# Altium footprint library MISCELANEOUS.PcbLib: 16 footprints
Each footprint in its own frame and in the unit in brackets; x right, y up, seen from the top. Pads: shape width x height; smd on the part's side, far side on the other; paste and mask are expansions set on the pad; w line width, h text height; cw(c..) or ccw(c..) is an arc to the next point about the centre after c.
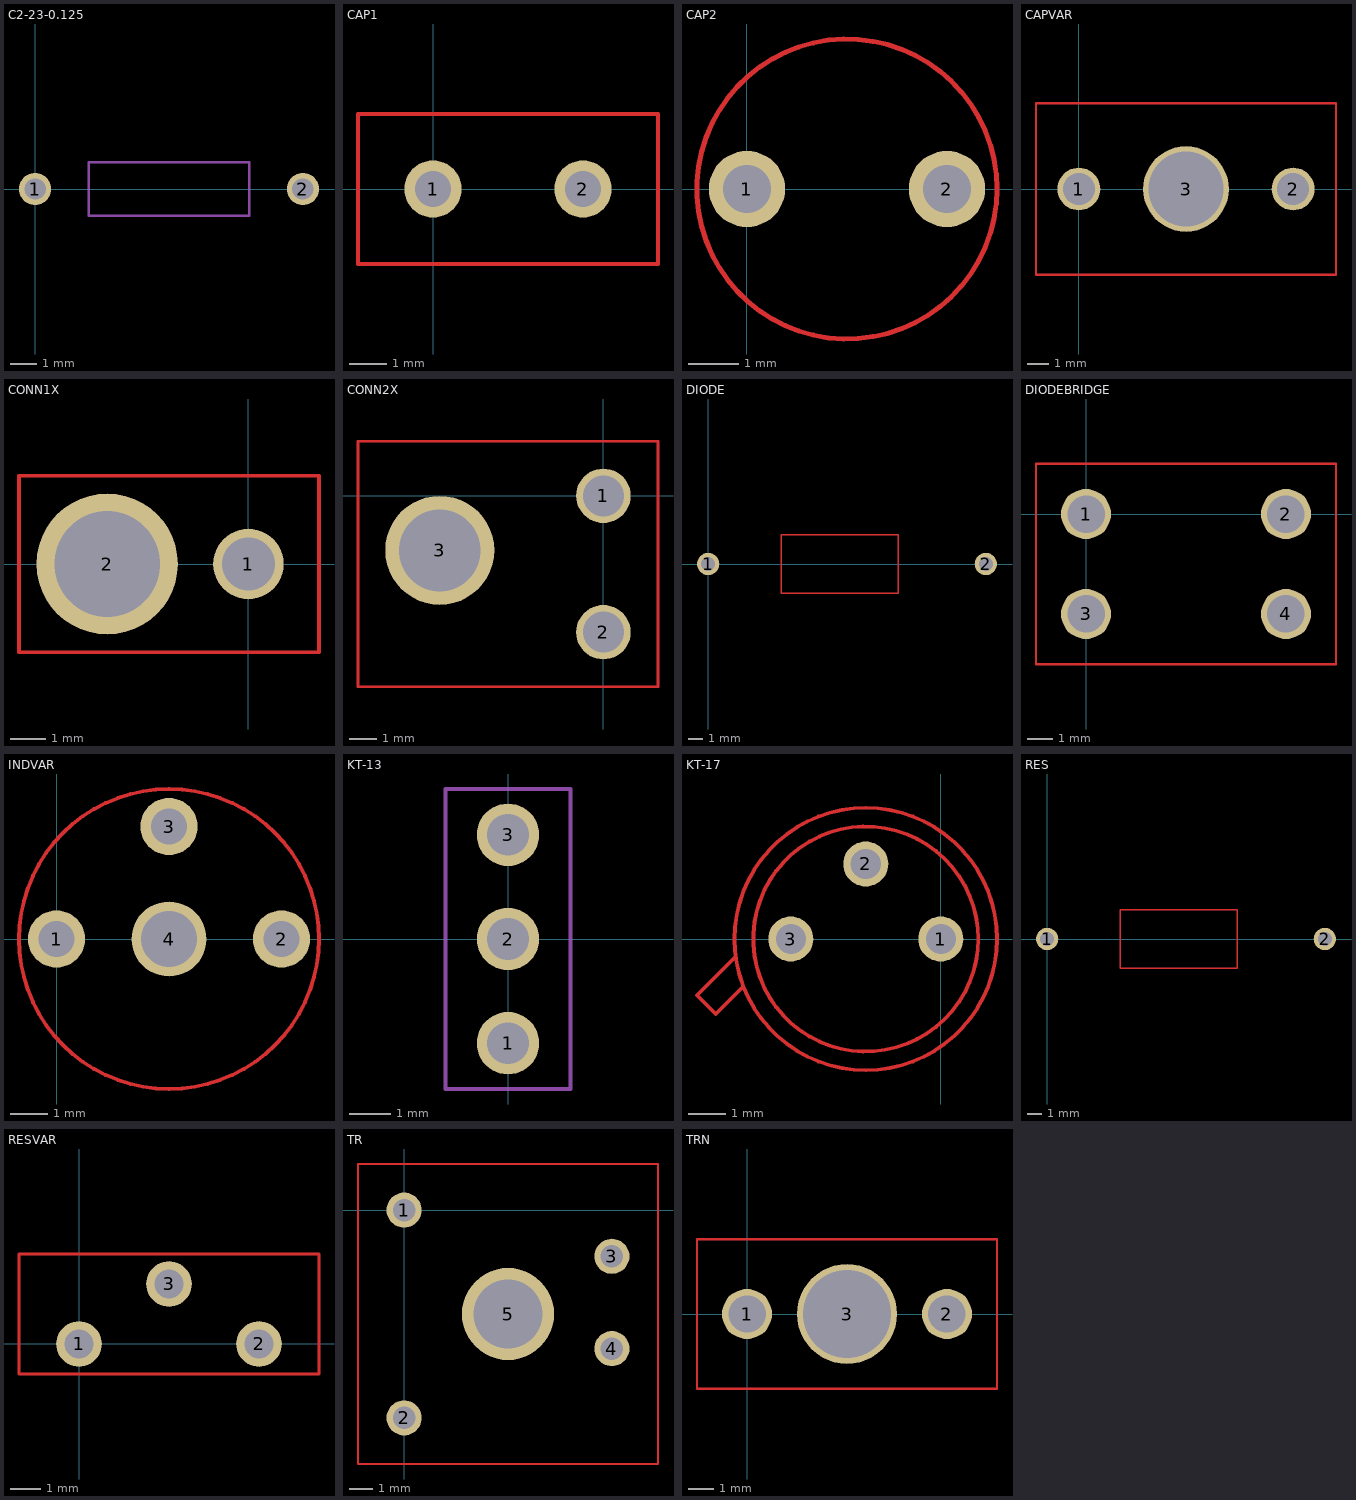
[diagram p0: the footprints below, top view; thin cyan lines are the x and y axes]

## C2-23-0.125 [mm]
pads (2):
  round 1.2 hole 0.8: 1(0,0) 2(10,0)
Mechanical 1:
  lines w0.1: 2,-1 8,-1 8,1 2,1 2,-1

## CAP1 [mil]
pads (2):
  round 60 hole 38: 1(0,0) 2(157.48,0)
Top Layer:
  lines w3.94: -78.74,-78.74 236.22,-78.74 236.22,78.74 -78.74,78.74 -78.74,-78.74

## CAP2 [mil]
pads (2):
  round 60 hole 38: 1(0,0) 2(157.48,0)
Top Layer:
  circle w3.94: c78.74,0 r118.11

## CAPVAR [mm]
pads (3):
  round 2 hole 1.5: 1(0,0) 2(10,0)
  round 4 hole 3.5: 3(5,0)
Top Layer:
  lines w0.1: -2,-4 12,-4 12,4 -2,4 -2,-4

## CONN1X [mm]
pads (2):
  round 2 hole 1.5: 1(0,0)
  round 4 hole 3: 2(-4,0)
Top Layer:
  lines w0.1: -6.5,-2.5 2,-2.5 2,2.5 -6.5,2.5 -6.5,-2.5

## CONN2X [mm]
pads (3):
  round 2 hole 1.5: 1(0,0) 2(0,-5)
  round 4 hole 3: 3(-6,-2)
Top Layer:
  lines w0.1: -9,-7 2,-7 2,2 -9,2 -9,-7

## DIODE [mil]
pads (2):
  round 60 hole 38: 1(0,0) 2(748.03,0)
Top Layer:
  lines w3.94: 196.85,-78.74 511.81,-78.74 511.81,78.74 196.85,78.74 196.85,-78.74

## DIODEBRIDGE [mm]
pads (4):
  round 2 hole 1.5: 1(0,0) 2(8,0) 3(0,-4) 4(8,-4)
Top Layer:
  lines w0.1: -2,-6 10,-6 10,2 -2,2 -2,-6

## INDVAR [mil]
pads (4):
  round 60 hole 38: 1(0,0) 2(236.22,0) 3(118.11,118.11)
  round 78.74 hole 59.06: 4(118.11,0)
Top Layer:
  circle w3.94: c118.11,0 r157.48

## KT-13 [mm]
pads (3):
  round 1.5 hole 1: 1(0,-2.5) 2(0,0) 3(0,2.5)
Mechanical 1:
  lines w0.1: -1.5,-3.6 1.5,-3.6 1.5,3.6 -1.5,3.6 -1.5,-3.6

## KT-17 [mm]
pads (3):
  round 1.2 hole 0.8: 1(0,0) 2(-2,2) 3(-4,0)
Top Layer:
  circle w0.1: c-2,0 r3.5
  circle w0.1: c-2,0 r3
  lines w0.1: -5.5,-0.5 -6,-1 -6.5,-1.5 -6,-2 -5.3,-1.3

## PCBComponent_1 [mm]

## RES [mil]
pads (2):
  round 60 hole 38: 1(0,0) 2(748.03,0)
Top Layer:
  lines w3.94: 196.85,-78.74 511.81,-78.74 511.81,78.74 196.85,78.74 196.85,-78.74

## RESVAR [mil]
pads (3):
  round 60 hole 38: 1(0,0) 2(236.22,0) 3(118.11,78.74)
Top Layer:
  lines w3.94: -78.74,-39.37 314.96,-39.37 314.96,118.11 -78.74,118.11 -78.74,-39.37

## TR [mil]
pads (5):
  round 60 hole 38: 1(0,0) 2(0,-354.33) 3(354.33,-78.74) 4(354.33,-236.22)
  round 157.48 hole 118.11 unplated: 5(177.17,-177.17)
Top Layer:
  lines w3.94: -78.74,-433.07 433.07,-433.07 433.07,78.74 -78.74,78.74 -78.74,-433.07

## TRN [mm]
pads (3):
  round 2 hole 1.5: 1(0,0) 2(8,0)
  round 4 hole 3.5: 3(4,0)
Top Layer:
  lines w0.1: -2,-3 10,-3 10,3 -2,3 -2,-3